# Altium schematic symbol library RelèBluetooth.SchLib: 19 symbols
Pins are listed as number, name and electrical type; pins without a type are passive.

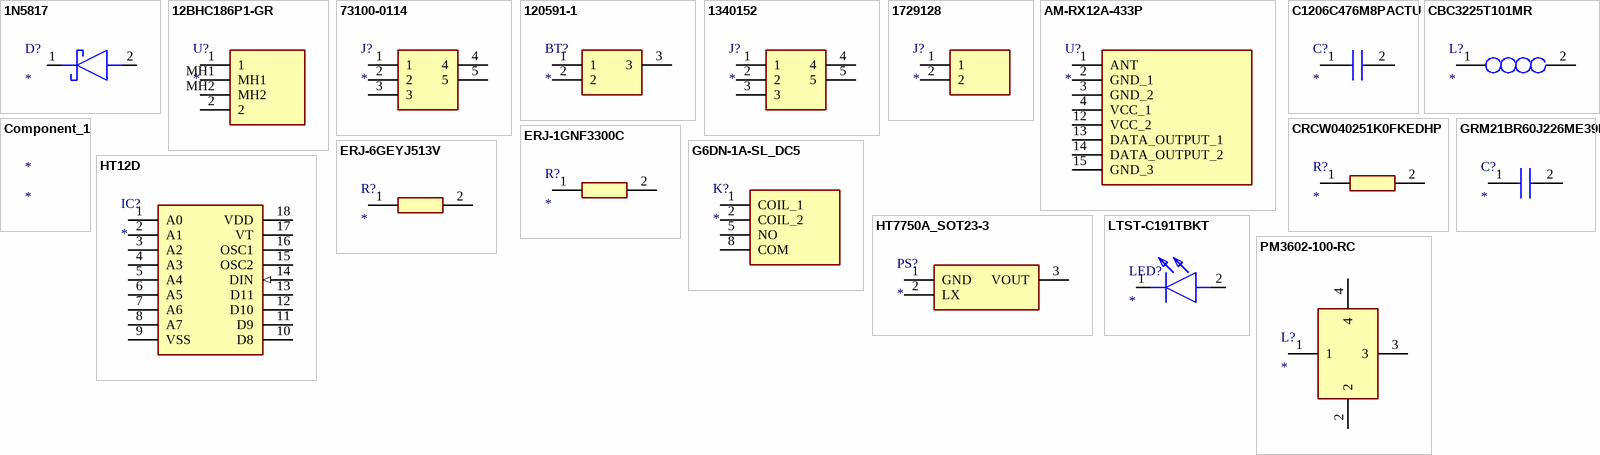
[diagram p0: symbols 1N5817 to PM3602-100-RC]

## 1N5817
designator D?
Schottky Diode; Manufacturer_Name: Rectron; Manufacturer_Part_Number: 1N5817; Datasheet Link: https://www.arrow.com/en/products/1n5817/rectron; Arrow Part Number: 1N5817; Arrow Price/Stock: https://www.arrow.com/en/products/1n5817/rectron?region=nac
footprint DIOAD1410W90L470D235
pins: 1 K, 2 A

## 12BHC186P1-GR
designator U?
Undefined or Miscellaneous; Manufacturer_Name: Eagle Plastic Devices; Manufacturer_Part_Number: 12BHC186P1-GR; Datasheet Link: https://www.mouser.co.il/datasheet/2/209/EaglePlastics_EPD_201001-1902272.pdf; Height: 20.5mm; Mouser Part Number: 12BHC186P1-GR; Mouser Price/Stock: https://www.mouser.co.uk/ProductDetail/Eagle-Plastic-Devices/12BHC186P1-GR?qs=yqaQSyyJnNiNkNtwVjdKJQ%3D%3D
footprint 12BHC186P1GR
pins: 1, 2, MH1, MH2

## 73100-0114
designator J?
Connector; Manufacturer_Name: Molex; Manufacturer_Part_Number: 73100-0114; Description: RF Connectors / Coaxial Connectors RA JACK PCB; Datasheet Link: https://www.molex.com/pdm_docs/sd/731000114_sd.pdf; Height: 9.57mm; Mouser Part Number: 538-73100-0114; Mouser Price/Stock: https://www.mouser.co.uk/ProductDetail/Molex/73100-0114?qs=ohtcwxb5zIvxHEM9IPQ5cQ%3D%3D; Arrow Part Number: 73100-0114; Arrow Price/Stock: https://www.arrow.com/en/products/73100-0114/molex?region=nac
footprint 731000114
pins: 1, 2, 3, 4, 5

## 120591-1
designator BT?
Battery; Manufacturer_Name: TE Connectivity; Manufacturer_Part_Number: 120591-1; Datasheet Link: http://www.te.com/commerce/DocumentDelivery/DDEController?Action=srchrtrv&DocNm=120591&DocType=Customer+Drawing&DocLang=English&DocFormat=pdf&PartCntxt=120591-1; Mouser Part Number: 571-1205911; Mouser Price/Stock: https://www.mouser.co.uk/ProductDetail/TE-Connectivity/120591-1?qs=cB%252BprIo57OeZ1n1mnEiYEw%3D%3D; Arrow Part Number: 120591-1; Arrow Price/Stock: https://www.arrow.com/en/products/120591-1/te-connectivity?region=nac
footprint 120591-1
pins: 1, 2, 3

## 1340152
designator J?
Connector; Manufacturer_Name: Phoenix Contact; Manufacturer_Part_Number: 1340152; Datasheet Link: http://www.phoenixcontact.com/de/produkte/1340152; Height: 10mm; Mouser Part Number: 651-1340152; Mouser Price/Stock: https://www.mouser.co.uk/ProductDetail/Phoenix-Contact/1340152?qs=4ASt3YYao0U48SDv5NpRtQ%3D%3D
footprint 1340152
pins: 1, 2, 3, 4, 5

## 1729128
designator J?
Connector; Manufacturer_Name: Phoenix Contact; Manufacturer_Part_Number: 1729128; Datasheet Link: http://www.phoenixcontact.net/product/1729128; Height: 10.15mm; Mouser Part Number: 651-1729128; Mouser Price/Stock: https://www.mouser.co.uk/ProductDetail/Phoenix-Contact/1729128?qs=GFUSqQMLmmnCBVBY3dts9w%3D%3D; Arrow Part Number: 1729128; Arrow Price/Stock: https://www.arrow.com/en/products/1729128/phoenix-contact?region=nac
footprint 1729128
pins: 1, 2

## AM-RX12A-433P
designator U?
Undefined or Miscellaneous; Manufacturer_Name: RF SOLUTIONS; Manufacturer_Part_Number: AM-RX12A-433P; Datasheet Link: https://datasheet.datasheetarchive.com/originals/distributors/DKDS-5/87927.pdf; Height: 14mm; Mouser Part Number: 223-AM-RX12A-433P; Mouser Price/Stock: https://www.mouser.co.uk/ProductDetail/RF-Solutions/AM-RX12A-433P?qs=OlC7AqGiEDnLHUSop2Y94Q%3D%3D; Arrow Part Number: AM-RX12A-433P; Arrow Price/Stock: https://www.arrow.com/en/products/am-rx12a-433p/rf-solutions
footprint AMRX12A433P
pins: 1 ANT, 2 GND_1, 3 GND_2, 4 VCC_1, 12 VCC_2, 13 DATA_OUTPUT_1, 14 DATA_OUTPUT_2, 15 GND_3

## C1206C476M8PACTU
designator C?
Capacitor; Manufacturer_Name: KEMET; Manufacturer_Part_Number: C1206C476M8PACTU; Datasheet Link: https://content.kemet.com/datasheets/KEM_C1006_X5R_SMD.pdf; Mouser Part Number: 80-C1206C476M8P; Mouser Price/Stock: https://www.mouser.co.uk/ProductDetail/KEMET/C1206C476M8PACTU?qs=K%2Fj%2Fqf%252B0fqIWQ8LQ8mLiKw%3D%3D; Arrow Part Number: C1206C476M8PACTU; Arrow Price/Stock: https://www.arrow.com/en/products/c1206c476m8pactu/kemet-corporation
footprint C1206
pins: 1, 2

## CBC3225T101MR
designator L?
Inductor; Manufacturer_Name: TAIYO YUDEN; Manufacturer_Part_Number: CBC3225T101MR; Datasheet Link: https://componentsearchengine.com/Datasheets/2/CBC3225T101MR.pdf; Height: 2.7mm; Mouser Part Number: 963-CBC3225T101MR; Mouser Price/Stock: https://www.mouser.co.uk/ProductDetail/TAIYO-YUDEN/CBC3225T101MR?qs=I6KAKw0tg2wCaeirMPJHXw%3D%3D; Arrow Part Number: CBC3225T101MR; Arrow Price/Stock: https://www.arrow.com/en/products/cbc3225t101mr/taiyo-yuden
footprint INDC3225X270N
pins: 1, 2

## Component_1
designator *

## CRCW040251K0FKEDHP
designator R?
Resistor; Manufacturer_Name: Vishay; Manufacturer_Part_Number: CRCW040251K0FKEDHP; Datasheet Link: http://www.vishay.com/docs/20035/dcrcwe3.pdf; Height: 0.4mm; Mouser Part Number: 71-CRCW040251K0FKEDH; Mouser Price/Stock: https://www.mouser.co.uk/ProductDetail/Vishay-Dale/CRCW040251K0FKEDHP?qs=YaA%252B3EhhSt0atgJF03YV9A%3D%3D; Arrow Part Number: CRCW040251K0FKEDHP; Arrow Price/Stock: https://www.arrow.com/en/products/crcw040251k0fkedhp/vishay
footprint RESC1005X40N
pins: 1, 2

## ERJ-1GNF3300C
designator R?
Resistor; Manufacturer_Name: Panasonic; Manufacturer_Part_Number: ERJ-1GNF3300C; Datasheet Link: https://industrial.panasonic.com/cdbs/www-data/pdf/RDA0000/AOA0000C301.pdf; Height: 0.26mm; Mouser Part Number: 667-ERJ-1GNF3300C; Mouser Price/Stock: https://www.mouser.co.uk/ProductDetail/Panasonic/ERJ-1GNF3300C?qs=nuXzIS8loXGdtA3emz%252Bc%252Bg%3D%3D; Arrow Part Number: ERJ-1GNF3300C; Arrow Price/Stock: https://www.arrow.com/en/products/erj-1gnf3300c/panasonic
footprint ERJ1GN_(0201)
pins: 1, 2

## ERJ-6GEYJ513V
designator R?
Resistor; Manufacturer_Name: Panasonic; Manufacturer_Part_Number: ERJ-6GEYJ513V; Datasheet Link: https://datasheet.datasheetarchive.com/originals/distributors/DKDS40/DSANUWW0011030.pdf; Height: 0.7mm; Mouser Part Number: 667-ERJ-6GEYJ513V; Mouser Price/Stock: https://www.mouser.com/Search/Refine.aspx?Keyword=667-ERJ-6GEYJ513V; Arrow Part Number: ERJ-6GEYJ513V; Arrow Price/Stock: https://www.arrow.com/en/products/erj-6geyj513v/panasonic
footprint RESC2012X70N
pins: 1, 2

## G6DN-1A-SL_DC5
designator K?
Relay or Contactor; Manufacturer_Name: Omron Electronics; Manufacturer_Part_Number: G6DN-1A-SL DC5; Datasheet Link: https://datasheet.lcsc.com/szlcsc/1909171832_Omron-Electronics-G6DN-1A-SL-DC5_C397208.pdf; Height: 12.5mm; Mouser Part Number: 653-G6DN-1A-SL-DC5; Mouser Price/Stock: https://www.mouser.co.uk/ProductDetail/Omron-Electronics/G6DN-1A-SL-DC5?qs=Cb2nCFKsA8rQaEt13kEruA%3D%3D; Arrow Part Number: G6DN-1A-SL DC5; Arrow Price/Stock: https://www.arrow.com/en/products/g6dn-1a-sl-dc5/omron?region=nac
footprint G6DN1ASLDC5
pins: 1 COIL_1, 2 COIL_2, 5 NO, 8 COM

## GRM21BR60J226ME39L
designator C?
Capacitor; Manufacturer_Name: Murata Electronics; Manufacturer_Part_Number: GRM21BR60J226ME39L; Datasheet Link: http://www.murata.com/~/media/webrenewal/support/library/catalog/products/capacitor/mlcc/c02e.pdf; Height: 1.45mm; Mouser Part Number: 81-GRM21R60J226ME39L; Mouser Price/Stock: https://www.mouser.co.uk/ProductDetail/Murata-Electronics/GRM21BR60J226ME39L?qs=DJY02EClX9n4vY1%2FNV53Qw%3D%3D; Arrow Part Number: GRM21BR60J226ME39L; Arrow Price/Stock: https://www.arrow.com/en/products/grm21br60j226me39l/murata-manufacturing?region=nac
footprint CAPC2012X145N
pins: 1, 2

## HT12D
designator IC?
Integrated Circuit; Manufacturer_Name: Holtek; Manufacturer_Part_Number: HT12D; Datasheet Link: https://datasheet.datasheetarchive.com/originals/distributors/Datasheets-28/DSA-559636.pdf; Height: 4.953mm
footprint DIP794W56P254L2286H495Q18N
pins: 1 A0, 2 A1, 3 A2, 4 A3, 5 A4, 6 A5, 7 A6, 8 A7, 9 VSS (power), 10 D8, 11 D9, 12 D10, 13 D11, 14 DIN (in), 15 OSC2, 16 OSC1, 17 VT, 18 VDD (power)

## HT7750A_SOT23-3
designator PS?
Power Supply; Manufacturer_Name: Holtek; Manufacturer_Part_Number: HT7750A SOT23-3; Height: 1.45mm
footprint SOT95P190X145-3N
pins: 1 GND, 2 LX, 3 VOUT

## LTST-C191TBKT
designator LED?
LED; Manufacturer_Name: Lite-On; Manufacturer_Part_Number: LTST-C191TBKT; Datasheet Link: http://optoelectronics.liteon.com/upload/download/DS22-2000-230/LTST-C191TBKT.pdf; Height: 0.65mm; Mouser Part Number: 859-LTST-C191TBKT; Mouser Price/Stock: https://www.mouser.co.uk/ProductDetail/Lite-On/LTST-C191TBKT?qs=dmW16TmpDgF%252B6HWuTmCtcw%3D%3D; Arrow Part Number: LTST-C191TBKT; Arrow Price/Stock: https://www.arrow.com/en/products/ltst-c191tbkt/lite-on-technology?region=nac
footprint LEDC1608X65N
pins: 1 K, 2 A

## PM3602-100-RC
designator L?
Inductor; Manufacturer_Name: Bourns; Manufacturer_Part_Number: PM3602-100-RC; Datasheet Link: https://www.bourns.com/docs/Product-Datasheets/pm3600_series.pdf; Height: 5.72mm; Mouser Part Number: 542-PM3602-100-RC; Mouser Price/Stock: https://www.mouser.co.uk/ProductDetail/Bourns/PM3602-100-RC?qs=1OiLlmb%252BG4dK6E4mIkbi2w%3D%3D
footprint PM3602100RC
pins: 1, 2, 3, 4